# Altium integrated library Inductor_0805 MLZ2012M1R5HT000.IntLib: 1 symbol
Pins are listed as number, name and electrical type; pins without a type are passive.

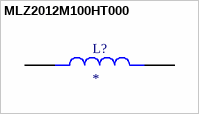
[diagram p0: symbol MLZ2012M100HT000]

## MLZ2012M100HT000
designator L?
10µH Shielded Multilayer Inductor 300mA 680mOhm 0805 (2012 Metric); MF: {'manufacturer': u'TDK Corporation'}; MP: MLZ2012M100HT000; Package: None; Price: None; Value: *; Availability: Unavailable
footprint INDC2012X145N
pins: 1, 2